# Altium footprint library SwitchBoardLib.PcbLib: 2 footprints
Each footprint in its own frame and in the unit in brackets; x right, y up, seen from the top. Pads: shape width x height; smd on the part's side, far side on the other; paste and mask are expansions set on the pad; w line width, h text height; cw(c..) or ccw(c..) is an arc to the next point about the centre after c.
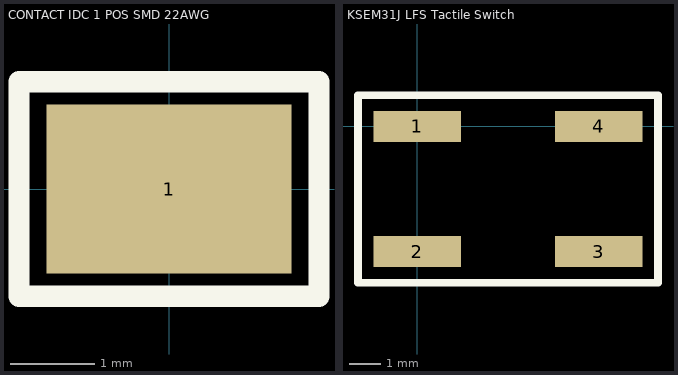
[diagram p0: the footprints below, top view; thin cyan lines are the x and y axes]

## CONTACT IDC 1 POS SMD 22AWG [mm]
height 2.75
pads (1):
  rect 2.9x2 smd: 1(0,0)
Top Overlay:
  lines w0.254: -1.778,-1.27 -1.778,1.27 1.778,1.27 1.778,-1.27 -1.778,-1.27

## KSEM31J LFS Tactile Switch [mm]
height 3.1
pads (4):
  rect 2.8x1 smd: 1(0,0) 2(0,-4) 3(5.8,-4) 4(5.8,0)
Top Overlay:
  lines w0.254: -1.9,-5 7.7,-5 7.7,1 -1.9,1 -1.9,-5